# EAGLE library part MICROSD_CATALEX (library wsc)
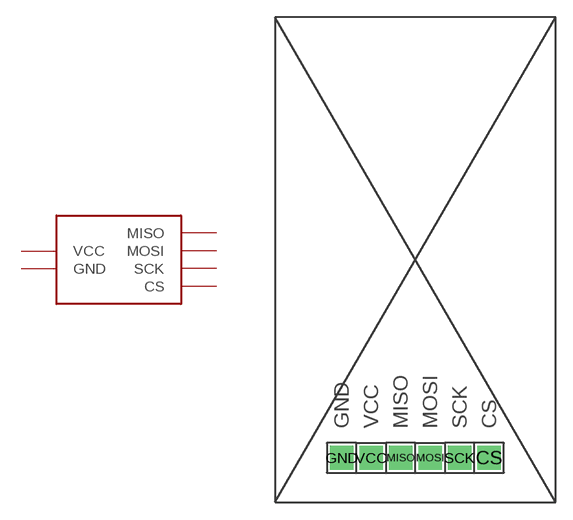
[diagram p81: symbol with the pads of MICROSD_CATALEX; footprint MICROSD_CATALEX]

Designator prefix U1

## MICROSD_CATALEX  [MICROSD_CATALEX]
CS  CS
GND  GND
MISO  MISO
MOSI  MOSI
SCK  SCK
VCC  VCC

## Footprint MICROSD_CATALEX (pad centres in mm)
drill 0.914 pad 2.032 square: CS 18.35,3.95; GND 5.65,3.95; MISO 10.73,3.95; MOSI 13.27,3.95; SCK 15.81,3.95; VCC 8.19,3.95